# Altium footprint library QFN50P700X700X90-49N-D.PcbLib: 1 footprints
Each footprint in its own frame and in the unit in brackets; x right, y up, seen from the top. Pads: shape width x height; smd on the part's side, far side on the other; paste and mask are expansions set on the pad; w line width, h text height; cw(c..) or ccw(c..) is an arc to the next point about the centre after c.
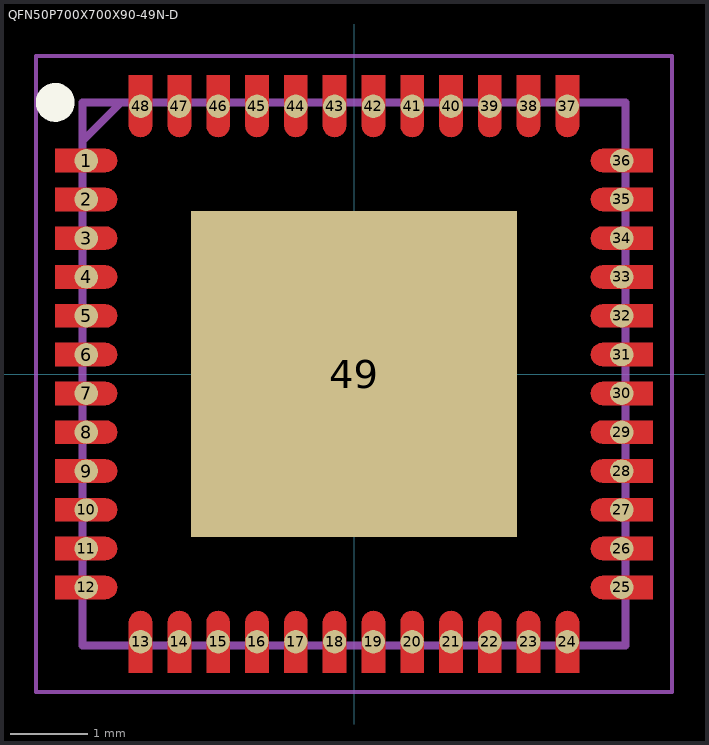
[diagram p0: the footprint, top view; thin cyan lines are the x and y axes]

## QFN50P700X700X90-49N-D [mm]
pads (49):
  round 0.3 smd: 1(-3.45,2.75) 2(-3.45,2.25) 3(-3.45,1.75) 4(-3.45,1.25) 5(-3.45,0.75) 6(-3.45,0.25) 7(-3.45,-0.25) 8(-3.45,-0.75) 9(-3.45,-1.25) 10(-3.45,-1.75) 11(-3.45,-2.25) 12(-3.45,-2.75) 13(-2.75,-3.45) 14(-2.25,-3.45) 15(-1.75,-3.45) 16(-1.25,-3.45) 17(-0.75,-3.45) 18(-0.25,-3.45) 19(0.25,-3.45) 20(0.75,-3.45) 21(1.25,-3.45) 22(1.75,-3.45) 23(2.25,-3.45) 24(2.75,-3.45) 25(3.45,-2.75) 26(3.45,-2.25) 27(3.45,-1.75) 28(3.45,-1.25) 29(3.45,-0.75) 30(3.45,-0.25) 31(3.45,0.25) 32(3.45,0.75) 33(3.45,1.25) 34(3.45,1.75) 35(3.45,2.25) 36(3.45,2.75) 37(2.75,3.45) 38(2.25,3.45) 39(1.75,3.45) 40(1.25,3.45) 41(0.75,3.45) 42(0.25,3.45) 43(-0.25,3.45) 44(-0.75,3.45) 45(-1.25,3.45) 46(-1.75,3.45) 47(-2.25,3.45) 48(-2.75,3.45)
  rect 4.2x4.2 smd: 49(0,0)
L1-Top Layer:
  region: -3.85,2.9 -3.2,2.9 -3.161,2.895 -3.125,2.88 -3.094,2.856 -3.07,2.825 -3.055,2.789 -3.05,2.75 -3.055,2.711 -3.07,2.675 -3.094,2.644 -3.125,2.62 -3.161,2.605 -3.2,2.6 -3.85,2.6
  region: -3.85,2.4 -3.2,2.4 -3.161,2.395 -3.125,2.38 -3.094,2.356 -3.07,2.325 -3.055,2.289 -3.05,2.25 -3.055,2.211 -3.07,2.175 -3.094,2.144 -3.125,2.12 -3.161,2.105 -3.2,2.1 -3.85,2.1
  region: -3.85,1.9 -3.2,1.9 -3.161,1.895 -3.125,1.88 -3.094,1.856 -3.07,1.825 -3.055,1.789 -3.05,1.75 -3.055,1.711 -3.07,1.675 -3.094,1.644 -3.125,1.62 -3.161,1.605 -3.2,1.6 -3.85,1.6
  region: -3.85,1.4 -3.2,1.4 -3.161,1.395 -3.125,1.38 -3.094,1.356 -3.07,1.325 -3.055,1.289 -3.05,1.25 -3.055,1.211 -3.07,1.175 -3.094,1.144 -3.125,1.12 -3.161,1.105 -3.2,1.1 -3.85,1.1
  region: -3.85,0.9 -3.2,0.9 -3.161,0.895 -3.125,0.88 -3.094,0.856 -3.07,0.825 -3.055,0.789 -3.05,0.75 -3.055,0.711 -3.07,0.675 -3.094,0.644 -3.125,0.62 -3.161,0.605 -3.2,0.6 -3.85,0.6
  region: -3.85,0.4 -3.2,0.4 -3.161,0.395 -3.125,0.38 -3.094,0.356 -3.07,0.325 -3.055,0.289 -3.05,0.25 -3.055,0.211 -3.07,0.175 -3.094,0.144 -3.125,0.12 -3.161,0.105 -3.2,0.1 -3.85,0.1
  region: -3.85,-0.1 -3.2,-0.1 -3.161,-0.105 -3.125,-0.12 -3.094,-0.144 -3.07,-0.175 -3.055,-0.211 -3.05,-0.25 -3.055,-0.289 -3.07,-0.325 -3.094,-0.356 -3.125,-0.38 -3.161,-0.395 -3.2,-0.4 -3.85,-0.4
  region: -3.85,-0.6 -3.2,-0.6 -3.161,-0.605 -3.125,-0.62 -3.094,-0.644 -3.07,-0.675 -3.055,-0.711 -3.05,-0.75 -3.055,-0.789 -3.07,-0.825 -3.094,-0.856 -3.125,-0.88 -3.161,-0.895 -3.2,-0.9 -3.85,-0.9
  region: -3.85,-1.1 -3.2,-1.1 -3.161,-1.105 -3.125,-1.12 -3.094,-1.144 -3.07,-1.175 -3.055,-1.211 -3.05,-1.25 -3.055,-1.289 -3.07,-1.325 -3.094,-1.356 -3.125,-1.38 -3.161,-1.395 -3.2,-1.4 -3.85,-1.4
  region: -3.85,-1.6 -3.2,-1.6 -3.161,-1.605 -3.125,-1.62 -3.094,-1.644 -3.07,-1.675 -3.055,-1.711 -3.05,-1.75 -3.055,-1.789 -3.07,-1.825 -3.094,-1.856 -3.125,-1.88 -3.161,-1.895 -3.2,-1.9 -3.85,-1.9
  region: -3.85,-2.1 -3.2,-2.1 -3.161,-2.105 -3.125,-2.12 -3.094,-2.144 -3.07,-2.175 -3.055,-2.211 -3.05,-2.25 -3.055,-2.289 -3.07,-2.325 -3.094,-2.356 -3.125,-2.38 -3.161,-2.395 -3.2,-2.4 -3.85,-2.4
  region: -3.85,-2.6 -3.2,-2.6 -3.161,-2.605 -3.125,-2.62 -3.094,-2.644 -3.07,-2.675 -3.055,-2.711 -3.05,-2.75 -3.055,-2.789 -3.07,-2.825 -3.094,-2.856 -3.125,-2.88 -3.161,-2.895 -3.2,-2.9 -3.85,-2.9
  region: -2.9,-3.85 -2.9,-3.2 -2.895,-3.161 -2.88,-3.125 -2.856,-3.094 -2.825,-3.07 -2.789,-3.055 -2.75,-3.05 -2.711,-3.055 -2.675,-3.07 -2.644,-3.094 -2.62,-3.125 -2.605,-3.161 -2.6,-3.2 -2.6,-3.85
  region: -2.4,-3.85 -2.4,-3.2 -2.395,-3.161 -2.38,-3.125 -2.356,-3.094 -2.325,-3.07 -2.289,-3.055 -2.25,-3.05 -2.211,-3.055 -2.175,-3.07 -2.144,-3.094 -2.12,-3.125 -2.105,-3.161 -2.1,-3.2 -2.1,-3.85
  region: -1.9,-3.85 -1.9,-3.2 -1.895,-3.161 -1.88,-3.125 -1.856,-3.094 -1.825,-3.07 -1.789,-3.055 -1.75,-3.05 -1.711,-3.055 -1.675,-3.07 -1.644,-3.094 -1.62,-3.125 -1.605,-3.161 -1.6,-3.2 -1.6,-3.85
  region: -1.4,-3.85 -1.4,-3.2 -1.395,-3.161 -1.38,-3.125 -1.356,-3.094 -1.325,-3.07 -1.289,-3.055 -1.25,-3.05 -1.211,-3.055 -1.175,-3.07 -1.144,-3.094 -1.12,-3.125 -1.105,-3.161 -1.1,-3.2 -1.1,-3.85
  region: -0.9,-3.85 -0.9,-3.2 -0.895,-3.161 -0.88,-3.125 -0.856,-3.094 -0.825,-3.07 -0.789,-3.055 -0.75,-3.05 -0.711,-3.055 -0.675,-3.07 -0.644,-3.094 -0.62,-3.125 -0.605,-3.161 -0.6,-3.2 -0.6,-3.85
  region: -0.4,-3.85 -0.4,-3.2 -0.395,-3.161 -0.38,-3.125 -0.356,-3.094 -0.325,-3.07 -0.289,-3.055 -0.25,-3.05 -0.211,-3.055 -0.175,-3.07 -0.144,-3.094 -0.12,-3.125 -0.105,-3.161 -0.1,-3.2 -0.1,-3.85
  region: 0.1,-3.85 0.1,-3.2 0.105,-3.161 0.12,-3.125 0.144,-3.094 0.175,-3.07 0.211,-3.055 0.25,-3.05 0.289,-3.055 0.325,-3.07 0.356,-3.094 0.38,-3.125 0.395,-3.161 0.4,-3.2 0.4,-3.85
  region: 0.6,-3.85 0.6,-3.2 0.605,-3.161 0.62,-3.125 0.644,-3.094 0.675,-3.07 0.711,-3.055 0.75,-3.05 0.789,-3.055 0.825,-3.07 0.856,-3.094 0.88,-3.125 0.895,-3.161 0.9,-3.2 0.9,-3.85
  region: 1.1,-3.85 1.1,-3.2 1.105,-3.161 1.12,-3.125 1.144,-3.094 1.175,-3.07 1.211,-3.055 1.25,-3.05 1.289,-3.055 1.325,-3.07 1.356,-3.094 1.38,-3.125 1.395,-3.161 1.4,-3.2 1.4,-3.85
  region: 1.6,-3.85 1.6,-3.2 1.605,-3.161 1.62,-3.125 1.644,-3.094 1.675,-3.07 1.711,-3.055 1.75,-3.05 1.789,-3.055 1.825,-3.07 1.856,-3.094 1.88,-3.125 1.895,-3.161 1.9,-3.2 1.9,-3.85
  region: 2.1,-3.85 2.1,-3.2 2.105,-3.161 2.12,-3.125 2.144,-3.094 2.175,-3.07 2.211,-3.055 2.25,-3.05 2.289,-3.055 2.325,-3.07 2.356,-3.094 2.38,-3.125 2.395,-3.161 2.4,-3.2 2.4,-3.85
  region: 2.6,-3.85 2.6,-3.2 2.605,-3.161 2.62,-3.125 2.644,-3.094 2.675,-3.07 2.711,-3.055 2.75,-3.05 2.789,-3.055 2.825,-3.07 2.856,-3.094 2.88,-3.125 2.895,-3.161 2.9,-3.2 2.9,-3.85
  region: 3.85,-2.9 3.2,-2.9 3.161,-2.895 3.125,-2.88 3.094,-2.856 3.07,-2.825 3.055,-2.789 3.05,-2.75 3.055,-2.711 3.07,-2.675 3.094,-2.644 3.125,-2.62 3.161,-2.605 3.2,-2.6 3.85,-2.6
  region: 3.85,-2.4 3.2,-2.4 3.161,-2.395 3.125,-2.38 3.094,-2.356 3.07,-2.325 3.055,-2.289 3.05,-2.25 3.055,-2.211 3.07,-2.175 3.094,-2.144 3.125,-2.12 3.161,-2.105 3.2,-2.1 3.85,-2.1
  region: 3.85,-1.9 3.2,-1.9 3.161,-1.895 3.125,-1.88 3.094,-1.856 3.07,-1.825 3.055,-1.789 3.05,-1.75 3.055,-1.711 3.07,-1.675 3.094,-1.644 3.125,-1.62 3.161,-1.605 3.2,-1.6 3.85,-1.6
  region: 3.85,-1.4 3.2,-1.4 3.161,-1.395 3.125,-1.38 3.094,-1.356 3.07,-1.325 3.055,-1.289 3.05,-1.25 3.055,-1.211 3.07,-1.175 3.094,-1.144 3.125,-1.12 3.161,-1.105 3.2,-1.1 3.85,-1.1
  region: 3.85,-0.9 3.2,-0.9 3.161,-0.895 3.125,-0.88 3.094,-0.856 3.07,-0.825 3.055,-0.789 3.05,-0.75 3.055,-0.711 3.07,-0.675 3.094,-0.644 3.125,-0.62 3.161,-0.605 3.2,-0.6 3.85,-0.6
  region: 3.85,-0.4 3.2,-0.4 3.161,-0.395 3.125,-0.38 3.094,-0.356 3.07,-0.325 3.055,-0.289 3.05,-0.25 3.055,-0.211 3.07,-0.175 3.094,-0.144 3.125,-0.12 3.161,-0.105 3.2,-0.1 3.85,-0.1
  region: 3.85,0.1 3.2,0.1 3.161,0.105 3.125,0.12 3.094,0.144 3.07,0.175 3.055,0.211 3.05,0.25 3.055,0.289 3.07,0.325 3.094,0.356 3.125,0.38 3.161,0.395 3.2,0.4 3.85,0.4
  region: 3.85,0.6 3.2,0.6 3.161,0.605 3.125,0.62 3.094,0.644 3.07,0.675 3.055,0.711 3.05,0.75 3.055,0.789 3.07,0.825 3.094,0.856 3.125,0.88 3.161,0.895 3.2,0.9 3.85,0.9
  region: 3.85,1.1 3.2,1.1 3.161,1.105 3.125,1.12 3.094,1.144 3.07,1.175 3.055,1.211 3.05,1.25 3.055,1.289 3.07,1.325 3.094,1.356 3.125,1.38 3.161,1.395 3.2,1.4 3.85,1.4
  region: 3.85,1.6 3.2,1.6 3.161,1.605 3.125,1.62 3.094,1.644 3.07,1.675 3.055,1.711 3.05,1.75 3.055,1.789 3.07,1.825 3.094,1.856 3.125,1.88 3.161,1.895 3.2,1.9 3.85,1.9
  region: 3.85,2.1 3.2,2.1 3.161,2.105 3.125,2.12 3.094,2.144 3.07,2.175 3.055,2.211 3.05,2.25 3.055,2.289 3.07,2.325 3.094,2.356 3.125,2.38 3.161,2.395 3.2,2.4 3.85,2.4
  region: 3.85,2.6 3.2,2.6 3.161,2.605 3.125,2.62 3.094,2.644 3.07,2.675 3.055,2.711 3.05,2.75 3.055,2.789 3.07,2.825 3.094,2.856 3.125,2.88 3.161,2.895 3.2,2.9 3.85,2.9
  region: 2.9,3.85 2.9,3.2 2.895,3.161 2.88,3.125 2.856,3.094 2.825,3.07 2.789,3.055 2.75,3.05 2.711,3.055 2.675,3.07 2.644,3.094 2.62,3.125 2.605,3.161 2.6,3.2 2.6,3.85
  region: 2.4,3.85 2.4,3.2 2.395,3.161 2.38,3.125 2.356,3.094 2.325,3.07 2.289,3.055 2.25,3.05 2.211,3.055 2.175,3.07 2.144,3.094 2.12,3.125 2.105,3.161 2.1,3.2 2.1,3.85
  region: 1.9,3.85 1.9,3.2 1.895,3.161 1.88,3.125 1.856,3.094 1.825,3.07 1.789,3.055 1.75,3.05 1.711,3.055 1.675,3.07 1.644,3.094 1.62,3.125 1.605,3.161 1.6,3.2 1.6,3.85
  region: 1.4,3.85 1.4,3.2 1.395,3.161 1.38,3.125 1.356,3.094 1.325,3.07 1.289,3.055 1.25,3.05 1.211,3.055 1.175,3.07 1.144,3.094 1.12,3.125 1.105,3.161 1.1,3.2 1.1,3.85
  region: 0.9,3.85 0.9,3.2 0.895,3.161 0.88,3.125 0.856,3.094 0.825,3.07 0.789,3.055 0.75,3.05 0.711,3.055 0.675,3.07 0.644,3.094 0.62,3.125 0.605,3.161 0.6,3.2 0.6,3.85
  region: 0.4,3.85 0.4,3.2 0.395,3.161 0.38,3.125 0.356,3.094 0.325,3.07 0.289,3.055 0.25,3.05 0.211,3.055 0.175,3.07 0.144,3.094 0.12,3.125 0.105,3.161 0.1,3.2 0.1,3.85
  region: -0.1,3.85 -0.1,3.2 -0.105,3.161 -0.12,3.125 -0.144,3.094 -0.175,3.07 -0.211,3.055 -0.25,3.05 -0.289,3.055 -0.325,3.07 -0.356,3.094 -0.38,3.125 -0.395,3.161 -0.4,3.2 -0.4,3.85
  region: -0.6,3.85 -0.6,3.2 -0.605,3.161 -0.62,3.125 -0.644,3.094 -0.675,3.07 -0.711,3.055 -0.75,3.05 -0.789,3.055 -0.825,3.07 -0.856,3.094 -0.88,3.125 -0.895,3.161 -0.9,3.2 -0.9,3.85
  region: -1.1,3.85 -1.1,3.2 -1.105,3.161 -1.12,3.125 -1.144,3.094 -1.175,3.07 -1.211,3.055 -1.25,3.05 -1.289,3.055 -1.325,3.07 -1.356,3.094 -1.38,3.125 -1.395,3.161 -1.4,3.2 -1.4,3.85
  region: -1.6,3.85 -1.6,3.2 -1.605,3.161 -1.62,3.125 -1.644,3.094 -1.675,3.07 -1.711,3.055 -1.75,3.05 -1.789,3.055 -1.825,3.07 -1.856,3.094 -1.88,3.125 -1.895,3.161 -1.9,3.2 -1.9,3.85
  region: -2.1,3.85 -2.1,3.2 -2.105,3.161 -2.12,3.125 -2.144,3.094 -2.175,3.07 -2.211,3.055 -2.25,3.05 -2.289,3.055 -2.325,3.07 -2.356,3.094 -2.38,3.125 -2.395,3.161 -2.4,3.2 -2.4,3.85
  region: -2.6,3.85 -2.6,3.2 -2.605,3.161 -2.62,3.125 -2.644,3.094 -2.675,3.07 -2.711,3.055 -2.75,3.05 -2.789,3.055 -2.825,3.07 -2.856,3.094 -2.88,3.125 -2.895,3.161 -2.9,3.2 -2.9,3.85
Top Overlay:
  circle w0.25: c-3.85,3.5 r0.125
Mechanical 15:
  lines w0.1: -3.5,3 -3,3.5 ; -3.5,-3.5 3.5,-3.5 3.5,3.5 -3.5,3.5 -3.5,-3.5
Mechanical 20:
  lines w0.05: -4.1,-4.1 4.1,-4.1 4.1,4.1 -4.1,4.1 -4.1,-4.1
3D body "6EDL7141.stp": height 5.8, standoff -4.65, extent -10,-3.376 10,3.376